# Altium schematic symbol library Surface Mount.SchLib: 21 symbols
Pins are listed as number, name and electrical type; pins without a type are passive.

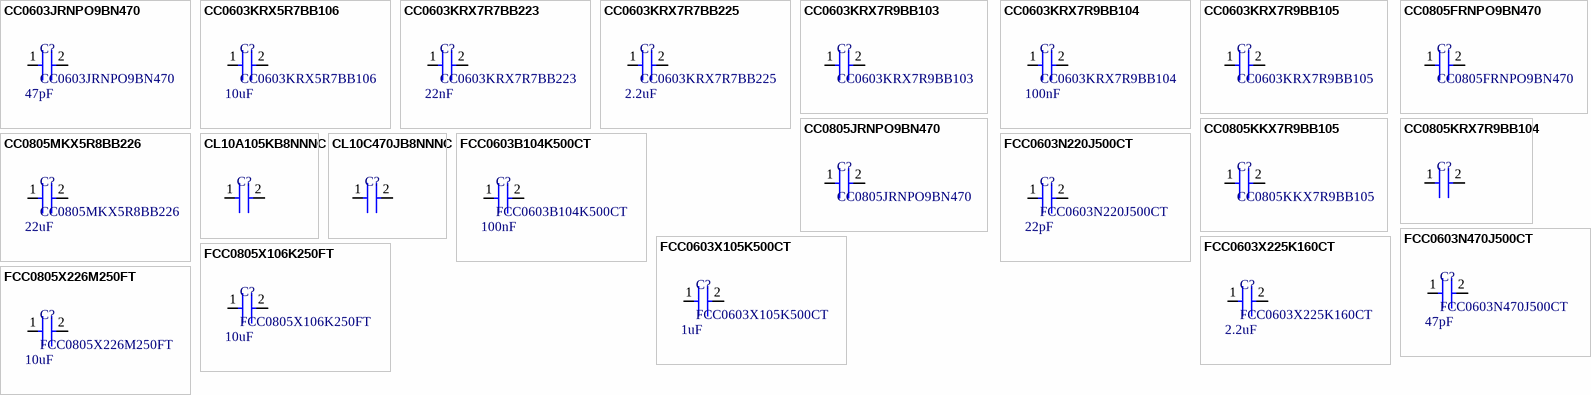
[diagram p0: symbols CC0603JRNPO9BN470 to FCC0805X226M250FT]

## CC0603JRNPO9BN470
designator C?  value 47pF
YAGEO(国巨) 0603 贴片电容 47pF ±5% 50V; 封装: 0603; 温度系数: NP0; ComponentLink1Description: 基本信息; ComponentLink1URL: https://www.yageo.com/en/Chart/Download/pdf/CC0603KRX7R9BB103; ComponentLink2Description: 数据手册; ComponentLink2URL: https://www.yageo.com/upload/website/yageo_UPY-C_GEN_26_24121113_316.pdf; 制造商: YAGEO(国巨); 类别: 贴片电容; 子类别: -; 精度: ±5%; 额定电压: 50V
footprint YAGEO-0603C-reflow-1 (YAGEO(国巨)数据手册中推荐的0603贴片电容的回流焊封装.For 0603 length 1.6 +/-0.1mm products.)
footprint YAGEO-0603C-wave-1 (YAGEO(国巨)数据手册中推荐的0603贴片电容的波峰焊封装.For 0603 length 1.6 +/-0.1mm products.)
pins: 1, 2

## CC0603KRX5R7BB106
designator C?  value 10uF
YAGEO(国巨) 0603 贴片电容  10uF ±10% 16V; 封装: 0603; 温度系数: X5R; ComponentLink1Description: 基本信息; ComponentLink1URL: https://www.yageo.com/en/Chart/Download/pdf/CC0805KKX7R9BB105; ComponentLink2Description: 数据手册; ComponentLink2URL: https://www.yageo.com/upload/website/yageo_UPY-C_GEN_26_24121113_316.pdf; 制造商: YAGEO(国巨); 类别: 贴片电容; 子类别: -; 精度: ±10%; 额定电压: 16V
footprint YAGEO-0603C-reflow-2 (YAGEO(国巨)数据手册中推荐的0603贴片电容的回流焊封装.For 0603 length 1.6 +/-0.15 and 1.6 +/-0.2 mm products)
footprint YAGEO-0603C-wave-2 (YAGEO(国巨)数据手册中推荐的0603贴片电容的波峰焊封装.For 0603 length 1.6 +/-0.15 and 1.6 +/-0.2 mm products)
pins: 1, 2

## CC0603KRX7R7BB223
designator C?  value 22nF
YAGEO(国巨) 0603 贴片电容 22nF ±10% 16V; 封装: 0603; 温度系数: X7R; ComponentLink1Description: 基本信息; ComponentLink1URL: https://www.yageo.com/en/Chart/Download/pdf/CC0603KRX7R9BB103; ComponentLink2Description: 数据手册; ComponentLink2URL: https://www.yageo.com/upload/website/yageo_UPY-C_GEN_26_24121113_316.pdf; 制造商: YAGEO(国巨); 类别: 贴片电容; 子类别: -; 精度: ±10%; 额定电压: 16V
footprint YAGEO-0603C-reflow-1 (YAGEO(国巨)数据手册中推荐的0603贴片电容的回流焊封装.For 0603 length 1.6 +/-0.1mm products.)
footprint YAGEO-0603C-wave-1 (YAGEO(国巨)数据手册中推荐的0603贴片电容的波峰焊封装.For 0603 length 1.6 +/-0.1mm products.)
pins: 1, 2

## CC0603KRX7R7BB225
designator C?  value 2.2uF
YAGEO(国巨) 0603 贴片电容 2.2uF ±10% 16V; 封装: 0603; 温度系数: X7R; ComponentLink1Description: 基本信息; ComponentLink1URL: https://www.yageo.com/en/Chart/Download/pdf/CC0603KRX7R9BB105; ComponentLink2Description: 数据手册; ComponentLink2URL: https://www.yageo.com/upload/website/yageo_UPY-C_GEN_26_24121113_316.pdf; 制造商: YAGEO(国巨); 类别: 贴片电容; 子类别: -; 精度: ±10%; 额定电压: 16V
footprint YAGEO-0603C-reflow-1 (YAGEO(国巨)数据手册中推荐的0603贴片电容的回流焊封装.For 0603 length 1.6 +/-0.1mm products.)
footprint YAGEO-0603C-wave-1 (YAGEO(国巨)数据手册中推荐的0603贴片电容的波峰焊封装.For 0603 length 1.6 +/-0.1mm products.)
pins: 1, 2

## CC0603KRX7R9BB103
designator C?
YAGEO(国巨) 0603 贴片电容 10nF ±10% 50V; 封装: 0603; 温度系数: X7R; Value: 10nF; ComponentLink1Description: 基本信息; ComponentLink1URL: https://www.yageo.com/en/Chart/Download/pdf/CC0603KRX7R9BB103; ComponentLink2Description: 数据手册; ComponentLink2URL: https://www.yageo.com/upload/website/yageo_UPY-C_GEN_26_24121113_316.pdf; 制造商: YAGEO(国巨); 类别: 贴片电容; 子类别: -; 精度: ±10%; 额定电压: 50V
footprint YAGEO-0603C-reflow-1 (YAGEO(国巨)数据手册中推荐的0603贴片电容的回流焊封装.For 0603 length 1.6 +/-0.1mm products.)
footprint YAGEO-0603C-wave-1 (YAGEO(国巨)数据手册中推荐的0603贴片电容的波峰焊封装.For 0603 length 1.6 +/-0.1mm products.)
pins: 1, 2

## CC0603KRX7R9BB104
designator C?  value 100nF
YAGEO(国巨) 0603 贴片电容 100nF ±10% 50V; 封装: 0603; 温度系数: X7R; ComponentLink1Description: 基本信息; ComponentLink1URL: https://www.yageo.com/en/Chart/Download/pdf/CC0603KRX7R9BB104; ComponentLink2Description: 数据手册; ComponentLink2URL: https://www.yageo.com/upload/website/yageo_UPY-C_GEN_26_24121113_316.pdf; 制造商: YAGEO(国巨); 类别: 贴片电容; 子类别: -; 精度: ±10%; 额定电压: 50V
footprint YAGEO-0603C-reflow-1 (YAGEO(国巨)数据手册中推荐的0603贴片电容的回流焊封装.For 0603 length 1.6 +/-0.1mm products.)
footprint YAGEO-0603C-wave-1 (YAGEO(国巨)数据手册中推荐的0603贴片电容的波峰焊封装.For 0603 length 1.6 +/-0.1mm products.)
pins: 1, 2

## CC0603KRX7R9BB105
designator C?
YAGEO(国巨) 0603 贴片电容 1uF ±10% 50V; 封装: 0603; 温度系数: X7R; Value: 1uF; ComponentLink1Description: 基本信息; ComponentLink1URL: https://www.yageo.com/en/Chart/Download/pdf/CC0603KRX7R9BB105; ComponentLink2Description: 数据手册; ComponentLink2URL: https://www.yageo.com/upload/website/yageo_UPY-C_GEN_26_24121113_316.pdf; 制造商: YAGEO(国巨); 类别: 贴片电容; 子类别: -; 精度: ±10%; 额定电压: 50V
footprint YAGEO-0603C-reflow-1 (YAGEO(国巨)数据手册中推荐的0603贴片电容的回流焊封装.For 0603 length 1.6 +/-0.1mm products.)
footprint YAGEO-0603C-wave-1 (YAGEO(国巨)数据手册中推荐的0603贴片电容的波峰焊封装.For 0603 length 1.6 +/-0.1mm products.)
pins: 1, 2

## CC0805FRNPO9BN470
designator C?
YAGEO(国巨) 0805 贴片电容  47pF ±1% 50V; 封装: 0805; 温度系数: NP0; Value: 47pF; ComponentLink1Description: 基本信息; ComponentLink1URL: https://www.yageo.com/en/Chart/Download/pdf/CC0805KKX7R9BB105; ComponentLink2Description: 数据手册; ComponentLink2URL: https://www.yageo.com/upload/website/yageo_UPY-C_GEN_26_24121113_316.pdf; 制造商: YAGEO(国巨); 类别: 贴片电容; 子类别: -; 精度: ±1%; 额定电压: 50V
footprint YAGEO-0805C-reflow (YAGEO(国巨)数据手册中推荐的0805贴片电容的回流焊封装)
footprint YAGEO-0805C-wave-1 (YAGEO(国巨)数据手册中推荐的0805贴片电容的波峰焊封装。For 0805 length 2.0+/-0.1mm products.)
pins: 1, 2

## CC0805JRNPO9BN470
designator C?
YAGEO(国巨) 0805 贴片电容  47pF ±5% 50V; 封装: 0805; 温度系数: NP0; Value: 47pF; ComponentLink1Description: 基本信息; ComponentLink1URL: https://www.yageo.com/en/Chart/Download/pdf/CC0805KKX7R9BB105; ComponentLink2Description: 数据手册; ComponentLink2URL: https://www.yageo.com/upload/website/yageo_UPY-C_GEN_26_24121113_316.pdf; 制造商: YAGEO(国巨); 类别: 贴片电容; 子类别: -; 精度: ±5%; 额定电压: 50V
footprint YAGEO-0805C-reflow (YAGEO(国巨)数据手册中推荐的0805贴片电容的回流焊封装)
footprint YAGEO-0805C-wave-1 (YAGEO(国巨)数据手册中推荐的0805贴片电容的波峰焊封装。For 0805 length 2.0+/-0.1mm products.)
pins: 1, 2

## CC0805KKX7R9BB105
designator C?
YAGEO(国巨) 0805 贴片电容  1uF ±10% 50V; 封装: 0805; 温度系数: X7R; Value: 1uF; ComponentLink1Description: 基本信息; ComponentLink1URL: https://www.yageo.com/en/Chart/Download/pdf/CC0805KKX7R9BB105; ComponentLink2Description: 数据手册; ComponentLink2URL: https://www.yageo.com/upload/website/yageo_UPY-C_GEN_26_24121113_316.pdf; 制造商: YAGEO(国巨); 类别: 贴片电容; 子类别: -; 精度: ±10%; 额定电压: 50V
footprint YAGEO-0805C-reflow (YAGEO(国巨)数据手册中推荐的0805贴片电容的回流焊封装)
footprint YAGEO-0805C-wave-2 (YAGEO(国巨)数据手册中推荐的0805贴片电容的波峰焊封装。For 0805 length 2.0+/-0.2mm products.)
pins: 1, 2

## CC0805KRX7R9BB104
designator C?  (value not drawn)
YAGEO(国巨) 0805 贴片电容 100nF ±10% 50V; 封装: 0805; 温度系数: X7R; Value: 100nF; ComponentLink1Description: 基本信息; ComponentLink1URL: https://www.yageo.com/en/Chart/Download/pdf/CC0805KRX7R9BB104; ComponentLink2Description: 数据手册; ComponentLink2URL: https://www.yageo.com/upload/website/yageo_UPY-C_GEN_26_24121113_316.pdf; 制造商: YAGEO(国巨); 类别: 贴片电容; 子类别: -; 精度: ±10%; 额定电压: 50V
footprint YAGEO-0805C-reflow (YAGEO(国巨)数据手册中推荐的0805贴片电容的回流焊封装)
footprint YAGEO-0805C-wave-2 (YAGEO(国巨)数据手册中推荐的0805贴片电容的波峰焊封装。For 0805 length 2.0+/-0.2mm products.)
pins: 1, 2

## CC0805MKX5R8BB226
designator C?  value 22uF
YAGEO(国巨) 0805 贴片电容  22uF ±20% 25V; 封装: 0805; 温度系数: X5R; ComponentLink1Description: 基本信息; ComponentLink1URL: https://www.yageo.com/en/Chart/Download/pdf/CC0805KKX7R9BB105; ComponentLink2Description: 数据手册; ComponentLink2URL: https://www.yageo.com/upload/website/yageo_UPY-C_GEN_26_24121113_316.pdf; 制造商: YAGEO(国巨); 类别: 贴片电容; 子类别: -; 精度: ±20%; 额定电压: 25V
footprint YAGEO-0805C-reflow (YAGEO(国巨)数据手册中推荐的0805贴片电容的回流焊封装)
footprint YAGEO-0805C-wave-2 (YAGEO(国巨)数据手册中推荐的0805贴片电容的波峰焊封装。For 0805 length 2.0+/-0.2mm products.)
pins: 1, 2

## CL10A105KB8NNNC
designator C?  (value not drawn)
SAMSUNG(三星) 0603 贴片电容 1uF ±10% 50V; 封装: 0603; 温度系数: X7R; Value: 1uF; ComponentLink1Description: 基本信息; ComponentLink1URL: https://www.yageo.com/en/Chart/Download/pdf/CC0805KRX7R9BB104; ComponentLink2Description: 数据手册; ComponentLink2URL: https://www.yageo.com/upload/website/yageo_UPY-C_GEN_26_24121113_316.pdf; 制造商: SAMSUNG(三星); 类别: 贴片电容; 子类别: -; 精度: ±10%; 额定电压: 50V
footprint Samsung_CL10_IPC_A
footprint Samsung_CL10_IPC_B
footprint Samsung_CL10_IPC_C
pins: 1, 2

## CL10C470JB8NNNC
designator C?  (value not drawn)
SAMSUNG(三星) 0603 贴片电容 47pF ±5% 50V; 封装: 0603; 温度系数: X7R; Value: 47pF; ComponentLink1Description: 基本信息; ComponentLink1URL: https://www.yageo.com/en/Chart/Download/pdf/CC0805KRX7R9BB104; ComponentLink2Description: 数据手册; ComponentLink2URL: https://www.yageo.com/upload/website/yageo_UPY-C_GEN_26_24121113_316.pdf; 制造商: SAMSUNG(三星); 类别: 贴片电容; 子类别: -; 精度: ±5%; 额定电压: 50V
footprint Samsung_CL10_IPC_A
footprint Samsung_CL10_IPC_B
footprint Samsung_CL10_IPC_C
pins: 1, 2

## FCC0603B104K500CT
designator C?  value 100nF
FOJAN(富捷) 0603 贴片电容 100nF ±10% 50V; 封装: 0603; 温度系数: X7R; 制造商: FOJAN(富捷); 类别: 贴片电容; 子类别: -; 精度: ±10%; 额定电压: 50V
footprint FOJAN-0603-reflow (FOJAN(富捷)数据手册中推荐的0603贴片电容的回流焊封装)
pins: 1, 2

## FCC0603N220J500CT
designator C?  value 22pF
FOJAN(富捷) 0603 贴片电容 22pF ±5% 50V; 封装: 0603; 温度系数: C0G; 制造商: FOJAN(富捷); 类别: 贴片电容; 子类别: -; 精度: ±5%; 额定电压: 50V
footprint FOJAN-0603-reflow (FOJAN(富捷)数据手册中推荐的0603贴片电容的回流焊封装)
pins: 1, 2

## FCC0603N470J500CT
designator C?  value 47pF
FOJAN(富捷) 0603 贴片电容 47pF ±5% 50V; 封装: 0603; 温度系数: C0G; 制造商: FOJAN(富捷); 类别: 贴片电容; 子类别: -; 精度: ±5%; 额定电压: 50V
footprint FOJAN-0603-reflow (FOJAN(富捷)数据手册中推荐的0603贴片电容的回流焊封装)
pins: 1, 2

## FCC0603X105K500CT
designator C?  value 1uF
FOJAN(富捷) 0603 贴片电容 1uF ±10% 50V; 封装: 0603; 温度系数: X5R; 制造商: FOJAN(富捷); 类别: 贴片电容; 子类别: -; 精度: ±10%; 额定电压: 50V
footprint FOJAN-0603-reflow (FOJAN(富捷)数据手册中推荐的0603贴片电容的回流焊封装)
pins: 1, 2

## FCC0603X225K160CT
designator C?  value 2.2uF
FOJAN(富捷) 0603 贴片电容 2.2uF ±5% 16V; 封装: 0603; 精度: ±10%; 温度系数: X5R; 制造商: FOJAN(富捷); 类别: 贴片电容; 子类别: -; 额定电压: 16V
footprint FOJAN-0603-reflow (FOJAN(富捷)数据手册中推荐的0603贴片电容的回流焊封装)
pins: 1, 2

## FCC0805X106K250FT
designator C?  value 10uF
FOJAN(富捷) 0805 贴片电容 10uF ±10% 25V; 温度系数: X5R; 制造商: FOJAN(富捷); 封装: 10uF; 类别: 贴片电容; 子类别: -; 精度: ±10%; 额定电压: 25V
footprint FOJAN-0805-reflow (FOJAN(富捷)数据手册中推荐的0805贴片电容的回流焊封装)
pins: 1, 2

## FCC0805X226M250FT
designator C?  value 10uF
FOJAN(富捷) 0805 贴片电容 22uF ±20% 25V; 温度系数: X5R; 制造商: FOJAN(富捷); 封装: 22uF; 类别: 贴片电容; 子类别: -; 精度: ±20%; 额定电压: 25V
footprint FOJAN-0805-reflow (FOJAN(富捷)数据手册中推荐的0805贴片电容的回流焊封装)
pins: 1, 2